# EAGLE library part COMPARATOR:LT1720(4.5NS,DUAL) (library QuantumOptics)
Compatator, dual, fast (4.5nS), single supply.
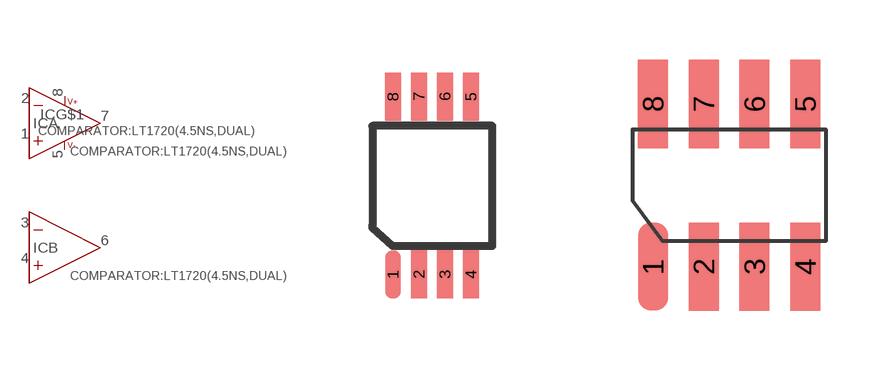
[diagram p3: symbol with the pads of MSOP8; footprints MSOP8, SOIC-8]

Designator prefix IC; gates A=OPAMP B=OPAMP G$1=PWR+-

## COMPARATOR:LT1720(4.5NS,DUAL)CMS8  [MSOP8]
1  A:+IN  in
2  A:-IN  in
3  B:-IN  in
4  B:+IN  in
5  G$1:V-
6  B:OUT  out
7  A:OUT  out
8  G$1:V++

## COMPARATOR:LT1720(4.5NS,DUAL)CS8  [SOIC-8]
Pads as for MSOP8

## Footprint MSOP8 (pad centres in mm)
MSOP-8, A.K.A. RM-8. Use 0.025" grid.
smd 0.4 x 1.2: 1 -0.65,-1.905; 2 0,-1.905; 3 0.65,-1.905; 4 1.3,-1.905; 5 1.3,2.54; 6 0.65,2.54; 7 0,2.54; 8 -0.65,2.54

## Footprint SOIC-8 (pad centres in mm)
SOIC-8 (AKA SO-8), pads on 0.050" grid.
smd 0.75 x 2.2: 1 -1.905,-2.032; 2 -0.635,-2.032; 3 0.635,-2.032; 4 1.905,-2.032; 5 1.905,2.032; 6 0.635,2.032; 7 -0.635,2.032; 8 -1.905,2.032